# Altium schematic symbol library 734120110.SchLib: 1 symbol
Pins are listed as number, name and electrical type; pins without a type are passive.

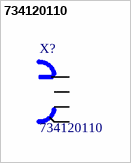
[diagram p0: symbol 734120110]

## 734120110
designator X?
Conn Micro Coaxial RCP 0Hz to 6GHz 50Ohm Solder ST SMD Gold T/R; MF: Molex; MP: 734120110; SnapEDA_Link: https://www.snapeda.com/parts/734120110/Molex/view-part/?ref=snap; Package: None; Digi-Key_Part_Number: WM5587CT-ND; Digi-Key_Purchase_URL: https://www.digikey.com/product-detail/en/molex/0734120110/WM5587CT-ND/1894612?utm_source=snapeda&utm_medium=aggregator&utm_campaign=symbol; Value: *
footprint *734120110_734120110(Primary)
pins: 1, S@1 2, S@2 2, S@3 2